# Altium schematic symbol library 1N5927(ON).SchLib: 1 symbol
Pins are listed as number, name and electrical type; pins without a type are passive.

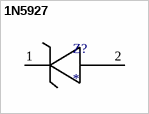
[diagram p0: symbol 1N5927]

## 1N5927
designator Z?
footprint 1N5927(ON) (Zener Diode)
pins: 1 Cathod, 2 Anode